# EAGLE library part MAX30205 (library GIX)
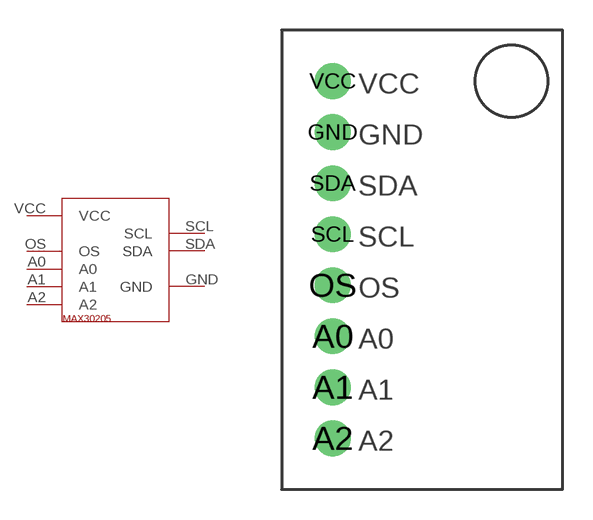
[diagram p6: symbol with the pads of MAX30205; footprint MAX30205]

Designator prefix -

## MAX30205  [MAX30205]
A0  A0
A1  A1
A2  A2
GND  GND
OS  OS
SCL  SCL
SDA  SDA
VCC  VCC

## Footprint MAX30205 (pad centres in mm)
drill 1.016 pad 1.778: A0 0,-3.81; A1 0,-6.35; A2 0,-8.89; GND 0,6.35; OS 0,-1.27; SCL 0,1.27; SDA 0,3.81; VCC 0,8.89